# EAGLE library part A6983C50QTR (library A6983C50QTR)
Automotive-grade 38 V, 3 A synchronous step-down converter with 25 uA quiescent current Source: Datasheet <https://www.st.com/resource/en/datasheet/a6983.pdf>
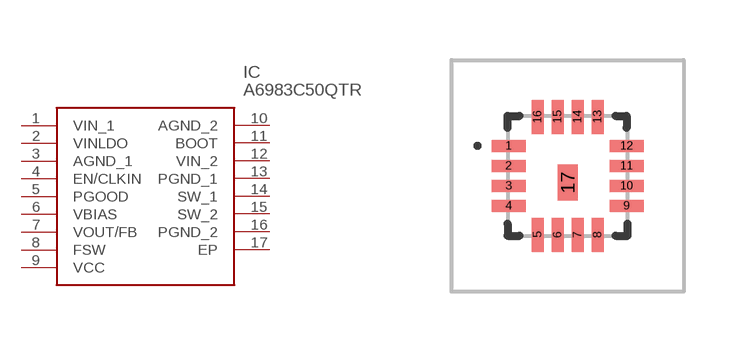
[diagram p0: symbol with the pads of A6983C50QTR; footprint A6983C50QTR]

Designator prefix IC

## A6983C50QTR (Arrow_Part_Number: A6983C50QTR; Arrow_Price-Stock: https://www.arrow.com/en/products/a6983c50qtr/stmicroelectronics?utm_currency=USD&region=nac; Description: Automotive-grade 38 V, 3 A synchronous step-down converter with 25 uA quiescent current; Height: 0.8mm; Manufacturer_Name: STMicroelectronics; Manufacturer_Part_Number: A6983C50QTR; Mouser_Part_Number: 511-A6983C50QTR; Mouser_Price-Stock: https://www.mouser.co.uk/ProductDetail/STMicroelectronics/A6983C50QTR?qs=rQFj71Wb1eXphuNT1rEzUA%3D%3D)  [A6983C50QTR]
1  VIN_1
2  VINLDO
3  AGND_1
4  EN/CLKIN
5  PGOOD
6  VBIAS
7  VOUT/FB
8  FSW
9  VCC
10  AGND_2
11  BOOT
12  VIN_2
13  PGND_1
14  SW_1
15  SW_2
16  PGND_2
17  EP

## Footprint A6983C50QTR (pad centres in mm)
A6983C50QTR
smd 0.85 x 0.3: 1 -1.475,0.75; 2 -1.475,0.25; 3 -1.475,-0.25; 4 -1.475,-0.75; 9 1.475,-0.75; 10 1.475,-0.25; 11 1.475,0.25; 12 1.475,0.75
smd 0.3 x 0.85: 5 -0.75,-1.475; 6 -0.25,-1.475; 7 0.25,-1.475; 8 0.75,-1.475; 13 0.75,1.475; 14 0.25,1.475; 15 -0.25,1.475; 16 -0.75,1.475
smd 0.5 x 0.9: 17 0,-0.17